# EAGLE library part M10_SMD_90 (library wsn)
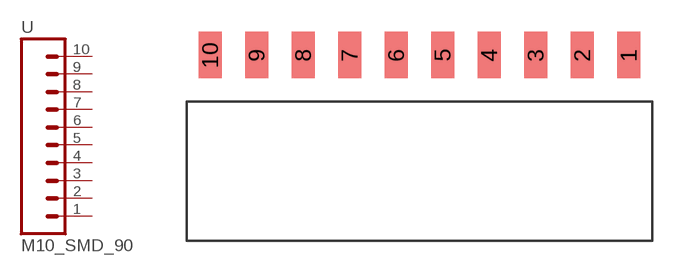
[diagram p65: symbol with the pads of M10_SMD_90; footprint M10_SMD_90]

Designator prefix -

## M10_SMD_90  [M10_SMD_90]
1  1  pas
2  2  pas
3  3  pas
4  4  pas
5  5  pas
6  6  pas
7  7  pas
8  8  pas
9  9  pas
10  10  pas

## Footprint M10_SMD_90 (pad centres in mm)
smd 1.27 x 2.54: 1 22.86,0; 2 20.32,0; 3 17.78,0; 4 15.24,0; 5 12.7,0; 6 10.16,0; 7 7.62,0; 8 5.08,0; 9 2.54,0; 10 0,0